# Altium schematic symbol library E2S-E2S-028-V1.SchLib: 1 symbol
Pins are listed as number, name and electrical type; pins without a type are passive.

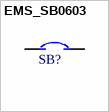
[diagram p0: symbol EMS_SB0603]

## EMS_SB0603
designator SB?  (value not drawn)  (net tie, no BOM)
0603 Solder Bridge; Manufacturer: *; Part Type: 0603 Solder Bridge; Vendor Name: *; Vendor Part Number: *; 3rd Auxiliary Field: *; Manufacturer Part Number: *; Internal Part Number: EMS_SB0603; 4th Auxiliary Field: *; Component Height (mm): *; Temp Co: *; 2nd Auxiliary Field: *; 1st Auxiliary Field: *; Value: *
footprint SB_0603
pins: 1, 2